# Altium footprint library PCB - OPTOISOLATOR - ONSEMI SOIC-8 751DZ-O.PcbLib: 1 footprints
Each footprint in its own frame and in the unit in brackets; x right, y up, seen from the top. Pads: shape width x height; smd on the part's side, far side on the other; paste and mask are expansions set on the pad; w line width, h text height; cw(c..) or ccw(c..) is an arc to the next point about the centre after c.
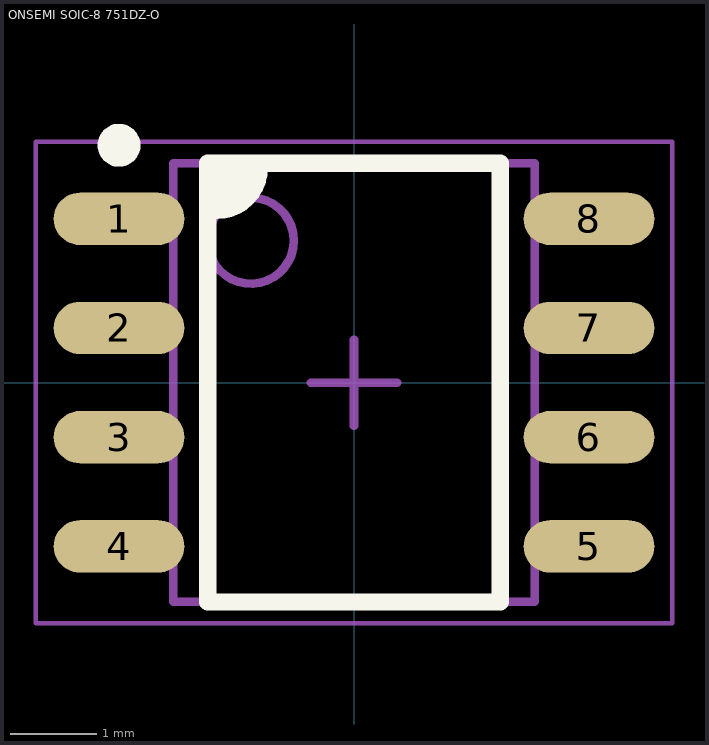
[diagram p0: the footprint, top view; thin cyan lines are the x and y axes]

## ONSEMI SOIC-8 751DZ-O [mm] "SOIC, 8-Leads, Body 4.88x3.91mm, Pitch 1.27mm, IPC Medium Density"
height 3.63
pads (8):
  oval 1.52x0.61 smd: 1(-2.732,1.905) 2(-2.732,0.635) 3(-2.732,-0.635) 4(-2.732,-1.905) 5(2.733,-1.905) 6(2.733,-0.635) 7(2.733,0.635) 8(2.733,1.905)
Top Overlay:
  circle w0.25: c-2.732,2.76 r0.125
  region: -1.7,2.55 -1.699,2.54 -1.692,2.522 -1.678,2.508 -1.66,2.501 -1.65,2.5 -1.1,2.5 -1.1,2.401 -1.176,2.217 -1.317,2.076 -1.501,2 -1.6,2 -1.65,2
  lines w0.2: -1.7,2 -1.6,2 ccw(c-1.6,2.5) -1.1,2.5 ; -1.7,-2.55 -1.7,2.55 1.7,2.55 1.7,-2.55 -1.7,-2.55
Mechanical 13:
  circle w0.1: c-1.2,1.65 r0.5
  lines w0.1: -2.1,-2.55 -2.1,2.55 2.1,2.55 2.1,-2.55 -2.1,-2.55
Mechanical 15:
  lines w0.05: -3.7,-2.8 -3.7,2.8 3.7,2.8 3.7,-2.8 -3.7,-2.8
  lines w0.1: -0.5,0 0.5,0 ; 0,-0.5 0,0.5
3D body "onsemi - SOIC-8 751DZ-O.step": height 3.63, standoff 0, extent -3.075,-2.565 3.075,2.565